# EAGLE library part TPS61230DRCR (library otto)
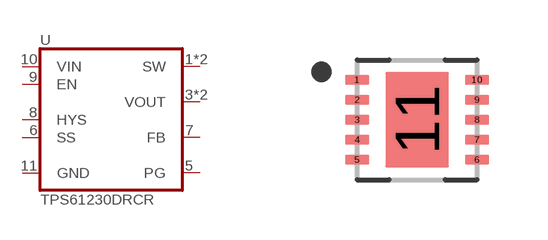
[diagram p3: symbol with the pads of VREG_V62/16624-01YE; footprint VREG_V62/16624-01YE]

Designator prefix U

## TPS61230DRCR (DESCRIPTION: High Efficiency Synchronous Boost Converter With 5-A Switch 10-VSON -40 to 85; DIGI-KEY_PART_NUMBER: 296-37761-1-ND; MF: Texas Instruments; MP: TPS61230DRCR; PACKAGE: VSON-10 Texas Instruments; PURCHASE-URL: https://pricing.snapeda.com/search/part/TPS61230DRCR/?ref=eda)  [VREG_V62/16624-01YE]
1  SW  out
2  SW  out
3  VOUT  out
4  VOUT  out
5  PG  out
6  SS  in
7  FB  in
8  HYS  out
9  EN  in
10  VIN  in
11  GND  pwr

## Footprint VREG_V62/16624-01YE (pad centres in mm)
smd 0.6 x 0.24: 1 -1.5,1; 2 -1.5,0.5; 3 -1.5,0; 4 -1.5,-0.5; 5 -1.5,-1; 6 1.5,-1; 7 1.5,-0.5; 8 1.5,0; 9 1.5,0.5; 10 1.5,1
smd 1.6 x 2.4: 11 0,0